# Altium integrated library TI Logic Latch.IntLib: 771 symbols (part 3 of 18)
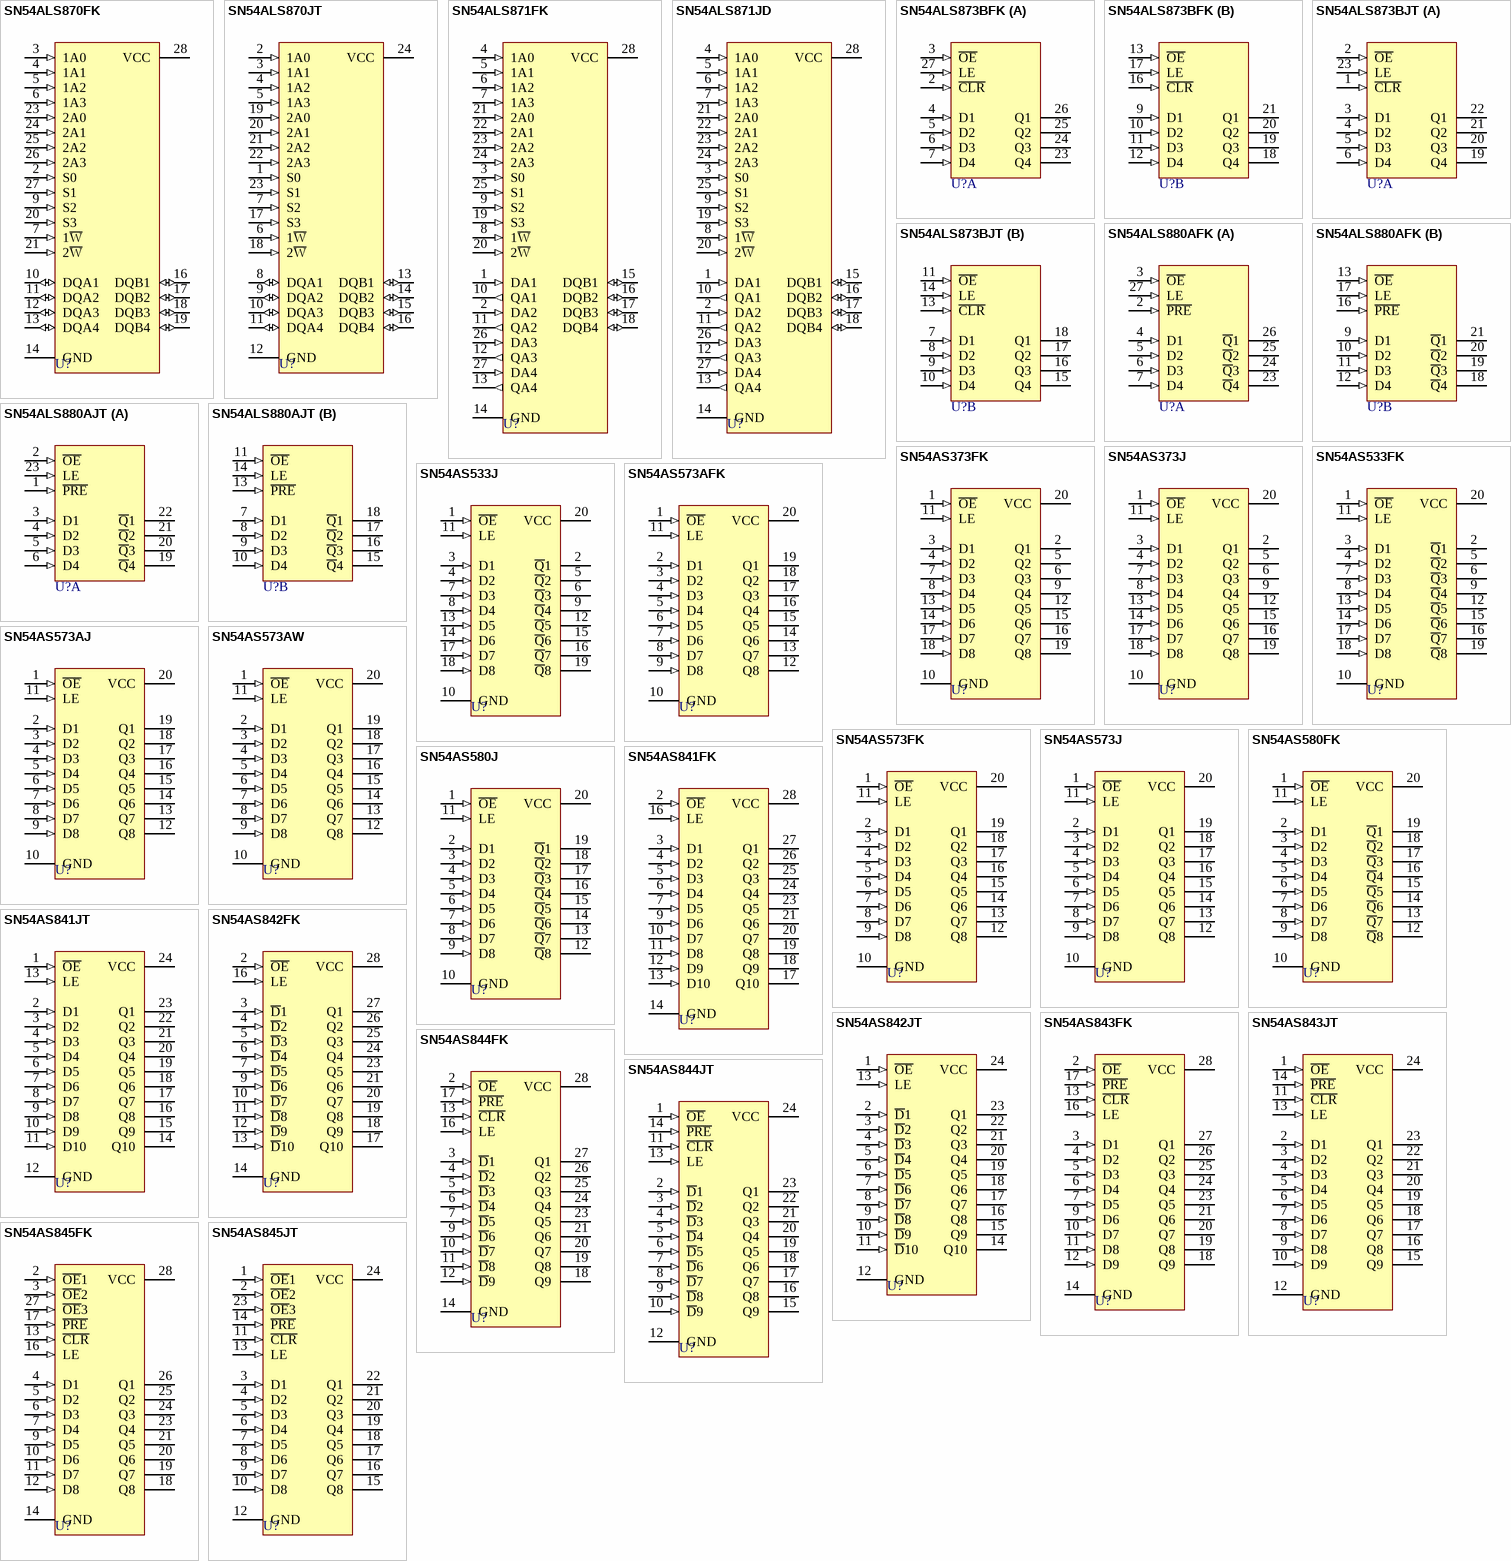
[diagram p28: symbols SN54ALS870FK to SN54AS845JT]

## SN54AS373J
designator U?
Octal Transparent D-Type Latches with 3-State Outputs; Published: 8-Jun-2000; LatestRevisionDate: 04-Mar-2005; LatestRevisionNote: Stylized 3D Model Added.; DatasheetVersion: Dec-1994; PackageVersion: Jun-1999; PackageReference: J020; Publisher: Altium Limited; PackageDescription: DIP; 20 Leads; Row Spacing 7.62 mm; Pitch 2.54 mm; ComponentLink1Description: Manufacturer Link; ComponentLink1URL: http://www.ti.com/; ComponentLink2Description: Datasheet; ComponentLink2URL: http://www-s.ti.com/sc/ds/sn54als373a.pdf
footprint J020 (DIP; 20 Leads; Row Spacing 7.62 mm; Pitch 2.54 mm)
3D model J020 (DIP; 20 Leads; Row Spacing 7.62 mm; Pitch 2.54 mm)
signal-integrity model SN54AS373J
pins: 1 ~{OE} (in), 2 Q1 (hiz), 3 D1 (in), 4 D2 (in), 5 Q2 (hiz), 6 Q3 (hiz), 7 D3 (in), 8 D4 (in), 9 Q4 (hiz), 10 GND (power), 11 LE (in), 12 Q5 (hiz), 13 D5 (in), 14 D6 (in), 15 Q6 (hiz), 16 Q7 (hiz), 17 D7 (in), 18 D8 (in), 19 Q8 (hiz), 20 VCC (power)

## SN54AS533FK
designator U?
Octal D-Type Transparent Latch with 3-State Outputs; Published: 8-Jun-2000; LatestRevisionDate: 17-Jul-2002; LatestRevisionNote: Re-released for DXP Platform.; DatasheetVersion: May-1986; PackageVersion: 1998; PackageReference: FK020D; Publisher: Altium Limited; PackageDescription: Leadless Chip Carrier; 20 Terminals; Body 8.9 x 8.9 mm; ComponentLink1Description: Manufacturer Link; ComponentLink1URL: http://www.ti.com/
footprint FK020D (Leadless Chip Carrier; 20 Terminals; Body 8.9 x 8.9 mm)
signal-integrity model SN54AS533FK
pins: 1 ~{OE} (in), 2 ~{Q}1 (hiz), 3 D1 (in), 4 D2 (in), 5 ~{Q}2 (hiz), 6 ~{Q}3 (hiz), 7 D3 (in), 8 D4 (in), 9 ~{Q}4 (hiz), 10 GND (power), 11 LE (in), 12 ~{Q}5 (hiz), 13 D5 (in), 14 D6 (in), 15 ~{Q}6 (hiz), 16 ~{Q}7 (hiz), 17 D7 (in), 18 D8 (in), 19 ~{Q}8 (hiz), 20 VCC (power)

## SN54AS533J
designator U?
Octal D-Type Transparent Latch with 3-State Outputs; Published: 8-Jun-2000; LatestRevisionDate: 04-Mar-2005; LatestRevisionNote: Stylized 3D Model Added.; DatasheetVersion: May-1986; PackageVersion: Jun-1999; PackageReference: J020D; Publisher: Altium Limited; PackageDescription: DIP; 20 Leads; Row Spacing 7.62 mm; Pitch 2.54 mm; ComponentLink1Description: Manufacturer Link; ComponentLink1URL: http://www.ti.com/
footprint J020D (DIP; 20 Leads; Row Spacing 7.62 mm; Pitch 2.54 mm)
3D model J020 (DIP; 20 Leads; Row Spacing 7.62 mm; Pitch 2.54 mm)
signal-integrity model SN54AS533J
pins: 1 ~{OE} (in), 2 ~{Q}1 (hiz), 3 D1 (in), 4 D2 (in), 5 ~{Q}2 (hiz), 6 ~{Q}3 (hiz), 7 D3 (in), 8 D4 (in), 9 ~{Q}4 (hiz), 10 GND (power), 11 LE (in), 12 ~{Q}5 (hiz), 13 D5 (in), 14 D6 (in), 15 ~{Q}6 (hiz), 16 ~{Q}7 (hiz), 17 D7 (in), 18 D8 (in), 19 ~{Q}8 (hiz), 20 VCC (power)

## SN54AS573AFK
designator U?
Octal D-Type Transparent Latches with 3-State Outputs; Published: 8-Jun-2000; LatestRevisionDate: 17-Jul-2002; LatestRevisionNote: Re-released for DXP Platform.; DatasheetVersion: Jan-1995; PackageVersion: 1998; PackageReference: FK020; Publisher: Altium Limited; PackageDescription: Leadless Chip Carrier; 20 Terminals; Body 8.9 x 8.9 mm; ComponentLink1Description: Manufacturer Link; ComponentLink1URL: http://www.ti.com/; ComponentLink2Description: Datasheet; ComponentLink2URL: http://www-s.ti.com/sc/ds/sn54as573a.pdf
footprint FK020 (Leadless Chip Carrier; 20 Terminals; Body 8.9 x 8.9 mm)
signal-integrity model SN54AS573AFK
pins: 1 ~{OE} (in), 2 D1 (in), 3 D2 (in), 4 D3 (in), 5 D4 (in), 6 D5 (in), 7 D6 (in), 8 D7 (in), 9 D8 (in), 10 GND (power), 11 LE (in), 12 Q8 (hiz), 13 Q7 (hiz), 14 Q6 (hiz), 15 Q5 (hiz), 16 Q4 (hiz), 17 Q3 (hiz), 18 Q2 (hiz), 19 Q1 (hiz), 20 VCC (power)

## SN54AS573AJ
designator U?
Octal D-Type Transparent Latches with 3-State Outputs; Published: 8-Jun-2000; LatestRevisionDate: 04-Mar-2005; LatestRevisionNote: Stylized 3D Model Added.; DatasheetVersion: Jan-1995; PackageVersion: Jun-1999; PackageReference: J020; Publisher: Altium Limited; PackageDescription: DIP; 20 Leads; Row Spacing 7.62 mm; Pitch 2.54 mm; ComponentLink1Description: Manufacturer Link; ComponentLink1URL: http://www.ti.com/; ComponentLink2Description: Datasheet; ComponentLink2URL: http://www-s.ti.com/sc/ds/sn54as573a.pdf
footprint J020 (DIP; 20 Leads; Row Spacing 7.62 mm; Pitch 2.54 mm)
3D model J020 (DIP; 20 Leads; Row Spacing 7.62 mm; Pitch 2.54 mm)
signal-integrity model SN54AS573AJ
pins: 1 ~{OE} (in), 2 D1 (in), 3 D2 (in), 4 D3 (in), 5 D4 (in), 6 D5 (in), 7 D6 (in), 8 D7 (in), 9 D8 (in), 10 GND (power), 11 LE (in), 12 Q8 (hiz), 13 Q7 (hiz), 14 Q6 (hiz), 15 Q5 (hiz), 16 Q4 (hiz), 17 Q3 (hiz), 18 Q2 (hiz), 19 Q1 (hiz), 20 VCC (power)

## SN54AS573AW
designator U?
Octal D-Type Transparent Latches with 3-State Outputs; Published: 8-Jun-2000; LatestRevisionDate: 04-Mar-2005; LatestRevisionNote: Stylized 3D Model Added.; DatasheetVersion: Jan-1995; PackageVersion: Jan-1995; PackageReference: W020; Publisher: Altium Limited; PackageDescription: DFP; 20 Leads; Body 13.7 x 7.6 mm (LxW max); Pitch 1.27 mm; ComponentLink1Description: Manufacturer Link; ComponentLink1URL: http://www.ti.com/; ComponentLink2Description: Datasheet; ComponentLink2URL: http://www-s.ti.com/sc/ds/sn54as573a.pdf
footprint W020 (DFP; 20 Leads; Body 13.7 x 7.6 mm (LxW max); Pitch 1.27 mm)
3D model W020 (DFP; 20 Leads; Body 13.7 x 7.6 mm (LxW max); Pitch 1.27 mm)
signal-integrity model SN54AS573AW
pins: 1 ~{OE} (in), 2 D1 (in), 3 D2 (in), 4 D3 (in), 5 D4 (in), 6 D5 (in), 7 D6 (in), 8 D7 (in), 9 D8 (in), 10 GND (power), 11 LE (in), 12 Q8 (hiz), 13 Q7 (hiz), 14 Q6 (hiz), 15 Q5 (hiz), 16 Q4 (hiz), 17 Q3 (hiz), 18 Q2 (hiz), 19 Q1 (hiz), 20 VCC (power)

## SN54AS573FK
designator U?
Octal D-Type Transparent Latch with 3-State Outputs; Published: 8-Jun-2000; LatestRevisionDate: 17-Jul-2002; LatestRevisionNote: Re-released for DXP Platform.; DatasheetVersion: May-1986; PackageVersion: 1998; PackageReference: FK020D; Publisher: Altium Limited; PackageDescription: Leadless Chip Carrier; 20 Terminals; Body 8.9 x 8.9 mm; ComponentLink1Description: Manufacturer Link; ComponentLink1URL: http://www.ti.com/
footprint FK020D (Leadless Chip Carrier; 20 Terminals; Body 8.9 x 8.9 mm)
signal-integrity model SN54AS573FK
pins: 1 ~{OE} (in), 2 D1 (in), 3 D2 (in), 4 D3 (in), 5 D4 (in), 6 D5 (in), 7 D6 (in), 8 D7 (in), 9 D8 (in), 10 GND (power), 11 LE (in), 12 Q8 (hiz), 13 Q7 (hiz), 14 Q6 (hiz), 15 Q5 (hiz), 16 Q4 (hiz), 17 Q3 (hiz), 18 Q2 (hiz), 19 Q1 (hiz), 20 VCC (power)

## SN54AS573J
designator U?
Octal D-Type Transparent Latch with 3-State Outputs; Published: 8-Jun-2000; LatestRevisionDate: 04-Mar-2005; LatestRevisionNote: Stylized 3D Model Added.; DatasheetVersion: May-1986; PackageVersion: Jun-1999; PackageReference: J020D; Publisher: Altium Limited; PackageDescription: DIP; 20 Leads; Row Spacing 7.62 mm; Pitch 2.54 mm; ComponentLink1Description: Manufacturer Link; ComponentLink1URL: http://www.ti.com/
footprint J020D (DIP; 20 Leads; Row Spacing 7.62 mm; Pitch 2.54 mm)
3D model J020 (DIP; 20 Leads; Row Spacing 7.62 mm; Pitch 2.54 mm)
signal-integrity model SN54AS573J
pins: 1 ~{OE} (in), 2 D1 (in), 3 D2 (in), 4 D3 (in), 5 D4 (in), 6 D5 (in), 7 D6 (in), 8 D7 (in), 9 D8 (in), 10 GND (power), 11 LE (in), 12 Q8 (hiz), 13 Q7 (hiz), 14 Q6 (hiz), 15 Q5 (hiz), 16 Q4 (hiz), 17 Q3 (hiz), 18 Q2 (hiz), 19 Q1 (hiz), 20 VCC (power)

## SN54AS580FK
designator U?
Octal D-Type Transparent Latch with 3-State Outputs; Published: 8-Jun-2000; LatestRevisionDate: 17-Jul-2002; LatestRevisionNote: Re-released for DXP Platform.; DatasheetVersion: May-1986; PackageVersion: 1998; PackageReference: FK020D; Publisher: Altium Limited; PackageDescription: Leadless Chip Carrier; 20 Terminals; Body 8.9 x 8.9 mm; ComponentLink1Description: Manufacturer Link; ComponentLink1URL: http://www.ti.com/
footprint FK020D (Leadless Chip Carrier; 20 Terminals; Body 8.9 x 8.9 mm)
signal-integrity model SN54AS580FK
pins: 1 ~{OE} (in), 2 D1 (in), 3 D2 (in), 4 D3 (in), 5 D4 (in), 6 D5 (in), 7 D6 (in), 8 D7 (in), 9 D8 (in), 10 GND (power), 11 LE (in), 12 ~{Q}8 (hiz), 13 ~{Q}7 (hiz), 14 ~{Q}6 (hiz), 15 ~{Q}5 (hiz), 16 ~{Q}4 (hiz), 17 ~{Q}3 (hiz), 18 ~{Q}2 (hiz), 19 ~{Q}1 (hiz), 20 VCC (power)

## SN54AS580J
designator U?
Octal D-Type Transparent Latch with 3-State Outputs; Published: 8-Jun-2000; LatestRevisionDate: 04-Mar-2005; LatestRevisionNote: Stylized 3D Model Added.; DatasheetVersion: May-1986; PackageVersion: Jun-1999; PackageReference: J020D; Publisher: Altium Limited; PackageDescription: DIP; 20 Leads; Row Spacing 7.62 mm; Pitch 2.54 mm; ComponentLink1Description: Manufacturer Link; ComponentLink1URL: http://www.ti.com/
footprint J020D (DIP; 20 Leads; Row Spacing 7.62 mm; Pitch 2.54 mm)
3D model J020 (DIP; 20 Leads; Row Spacing 7.62 mm; Pitch 2.54 mm)
signal-integrity model SN54AS580J
pins: 1 ~{OE} (in), 2 D1 (in), 3 D2 (in), 4 D3 (in), 5 D4 (in), 6 D5 (in), 7 D6 (in), 8 D7 (in), 9 D8 (in), 10 GND (power), 11 LE (in), 12 ~{Q}8 (hiz), 13 ~{Q}7 (hiz), 14 ~{Q}6 (hiz), 15 ~{Q}5 (hiz), 16 ~{Q}4 (hiz), 17 ~{Q}3 (hiz), 18 ~{Q}2 (hiz), 19 ~{Q}1 (hiz), 20 VCC (power)

## SN54AS841FK
designator U?
10-Bit Bus Interface D-Type Latch with 3-State Outputs; Note: Pins No 1,8,15 and 22 are Not Connected; Published: 8-Jun-2000; LatestRevisionDate: 17-Jul-2002; LatestRevisionNote: Re-released for DXP Platform.; DatasheetVersion: May-1986; PackageVersion: 1998; PackageReference: FK028; Publisher: Altium Limited; PackageDescription: Leadless Chip Carrier; 28 Terminals; Body 11.4 x 11.4 mm; ComponentLink1Description: Manufacturer Link; ComponentLink1URL: http://www.ti.com/
footprint FK028 (Leadless Chip Carrier; 28 Terminals; Body 11.4 x 11.4 mm)
signal-integrity model SN54AS841FK
pins: 2 ~{OE} (in), 3 D1 (in), 4 D2 (in), 5 D3 (in), 6 D4 (in), 7 D5 (in), 9 D6 (in), 10 D7 (in), 11 D8 (in), 12 D9 (in), 13 D10 (in), 14 GND (power), 16 LE (in), 17 Q10 (hiz), 18 Q9 (hiz), 19 Q8 (hiz), 20 Q7 (hiz), 21 Q6 (hiz), 23 Q5 (hiz), 24 Q4 (hiz), 25 Q3 (hiz), 26 Q2 (hiz), 27 Q1 (hiz), 28 VCC (power)

## SN54AS841JT
designator U?
10-Bit Bus Interface D-Type Latch with 3-State Outputs; Published: 8-Jun-2000; LatestRevisionDate: 04-Mar-2005; LatestRevisionNote: Stylized 3D Model Added.; DatasheetVersion: May-1986; PackageVersion: Jan-1997; PackageReference: JT024; Publisher: Altium Limited; PackageDescription: DIP; 24 Leads; Row Spacing 7.62 mm; Pitch 2.54 mm; Code_JEDEC: MS-001-AF; ComponentLink1Description: Manufacturer Link; ComponentLink1URL: http://www.ti.com/
footprint JT024 (DIP; 24 Leads; Row Spacing 7.62 mm; Pitch 2.54 mm)
3D model JT024 (DIP; 24 Leads; Row Spacing 7.62 mm; Pitch 2.54 mm)
signal-integrity model SN54AS841JT
pins: 1 ~{OE} (in), 2 D1 (in), 3 D2 (in), 4 D3 (in), 5 D4 (in), 6 D5 (in), 7 D6 (in), 8 D7 (in), 9 D8 (in), 10 D9 (in), 11 D10 (in), 12 GND (power), 13 LE (in), 14 Q10 (hiz), 15 Q9 (hiz), 16 Q8 (hiz), 17 Q7 (hiz), 18 Q6 (hiz), 19 Q5 (hiz), 20 Q4 (hiz), 21 Q3 (hiz), 22 Q2 (hiz), 23 Q1 (hiz), 24 VCC (power)

## SN54AS842FK
designator U?
10-Bit Bus Interface D-Type Latch with 3-State Outputs; Note: Pins No 1,8,15 and 22 are Not Connected; Published: 8-Jun-2000; LatestRevisionDate: 17-Jul-2002; LatestRevisionNote: Re-released for DXP Platform.; DatasheetVersion: May-1986; PackageVersion: 1998; PackageReference: FK028; Publisher: Altium Limited; PackageDescription: Leadless Chip Carrier; 28 Terminals; Body 11.4 x 11.4 mm; ComponentLink1Description: Manufacturer Link; ComponentLink1URL: http://www.ti.com/
footprint FK028 (Leadless Chip Carrier; 28 Terminals; Body 11.4 x 11.4 mm)
signal-integrity model SN54AS842FK
pins: 2 ~{OE} (in), 3 ~{D}1 (in), 4 ~{D}2 (in), 5 ~{D}3 (in), 6 ~{D}4 (in), 7 ~{D}5 (in), 9 ~{D}6 (in), 10 ~{D}7 (in), 11 ~{D}8 (in), 12 ~{D}9 (in), 13 ~{D}10 (in), 14 GND (power), 16 LE (in), 17 Q10 (hiz), 18 Q9 (hiz), 19 Q8 (hiz), 20 Q7 (hiz), 21 Q6 (hiz), 23 Q5 (hiz), 24 Q4 (hiz), 25 Q3 (hiz), 26 Q2 (hiz), 27 Q1 (hiz), 28 VCC (power)

## SN54AS842JT
designator U?
10-Bit Bus Interface D-Type Latch with 3-State Outputs; Published: 8-Jun-2000; LatestRevisionDate: 04-Mar-2005; LatestRevisionNote: Stylized 3D Model Added.; DatasheetVersion: May-1986; PackageVersion: Jan-1997; PackageReference: JT024; Publisher: Altium Limited; PackageDescription: DIP; 24 Leads; Row Spacing 7.62 mm; Pitch 2.54 mm; Code_JEDEC: MS-001-AF; ComponentLink1Description: Manufacturer Link; ComponentLink1URL: http://www.ti.com/
footprint JT024 (DIP; 24 Leads; Row Spacing 7.62 mm; Pitch 2.54 mm)
3D model JT024 (DIP; 24 Leads; Row Spacing 7.62 mm; Pitch 2.54 mm)
signal-integrity model SN54AS842JT
pins: 1 ~{OE} (in), 2 ~{D}1 (in), 3 ~{D}2 (in), 4 ~{D}3 (in), 5 ~{D}4 (in), 6 ~{D}5 (in), 7 ~{D}6 (in), 8 ~{D}7 (in), 9 ~{D}8 (in), 10 ~{D}9 (in), 11 ~{D}10 (in), 12 GND (power), 13 LE (in), 14 Q10 (hiz), 15 Q9 (hiz), 16 Q8 (hiz), 17 Q7 (hiz), 18 Q6 (hiz), 19 Q5 (hiz), 20 Q4 (hiz), 21 Q3 (hiz), 22 Q2 (hiz), 23 Q1 (hiz), 24 VCC (power)

## SN54AS843FK
designator U?
9-Bit Bus Interface D-Type Latch with 3-State Outputs; Published: 8-Jun-2000; LatestRevisionDate: 17-Jul-2002; LatestRevisionNote: Re-released for DXP Platform.; DatasheetVersion: Dec-1985; PackageVersion: 1998; PackageReference: FK028D; Publisher: Altium Limited; PackageDescription: Leadless Chip Carrier; 28 Terminals; Body 11.4 x 11.4 mm; ComponentLink1Description: Manufacturer Link; ComponentLink1URL: http://www.ti.com/
footprint FK028D (Leadless Chip Carrier; 28 Terminals; Body 11.4 x 11.4 mm)
signal-integrity model SN54AS843FK
pins: 2 ~{OE} (in), 3 D1 (in), 4 D2 (in), 5 D3 (in), 6 D4 (in), 7 D5 (in), 9 D6 (in), 10 D7 (in), 11 D8 (in), 12 D9 (in), 13 ~{CLR} (in), 14 GND (power), 16 LE (in), 17 ~{PRE} (in), 18 Q9 (hiz), 19 Q8 (hiz), 20 Q7 (hiz), 21 Q6 (hiz), 23 Q5 (hiz), 24 Q4 (hiz), 25 Q3 (hiz), 26 Q2 (hiz), 27 Q1 (hiz), 28 VCC (power)

## SN54AS843JT
designator U?
9-Bit Bus Interface D-Type Latch with 3-State Outputs; Published: 8-Jun-2000; LatestRevisionDate: 04-Mar-2005; LatestRevisionNote: Stylized 3D Model Added.; DatasheetVersion: Dec-1985; PackageVersion: Jan-1997; PackageReference: JT024D; Publisher: Altium Limited; PackageDescription: DIP; 24 Leads; Row Spacing 7.62 mm; Pitch 2.54 mm; Code_JEDEC: MS-001-AF; ComponentLink1Description: Manufacturer Link; ComponentLink1URL: http://www.ti.com/
footprint JT024D (DIP; 24 Leads; Row Spacing 7.62 mm; Pitch 2.54 mm)
3D model JT024 (DIP; 24 Leads; Row Spacing 7.62 mm; Pitch 2.54 mm)
signal-integrity model SN54AS843JT
pins: 1 ~{OE} (in), 2 D1 (in), 3 D2 (in), 4 D3 (in), 5 D4 (in), 6 D5 (in), 7 D6 (in), 8 D7 (in), 9 D8 (in), 10 D9 (in), 11 ~{CLR} (in), 12 GND (power), 13 LE (in), 14 ~{PRE} (in), 15 Q9 (hiz), 16 Q8 (hiz), 17 Q7 (hiz), 18 Q6 (hiz), 19 Q5 (hiz), 20 Q4 (hiz), 21 Q3 (hiz), 22 Q2 (hiz), 23 Q1 (hiz), 24 VCC (power)

## SN54AS844FK
designator U?
9-Bit Bus Interface D-Type Latch with 3-State Outputs; Note: Pins No 1,8,15 and 22 are Not Connected; Published: 8-Jun-2000; LatestRevisionDate: 17-Jul-2002; LatestRevisionNote: Re-released for DXP Platform.; DatasheetVersion: Dec-1985; PackageVersion: 1998; PackageReference: FK028D; Publisher: Altium Limited; PackageDescription: Leadless Chip Carrier; 28 Terminals; Body 11.4 x 11.4 mm; ComponentLink1Description: Manufacturer Link; ComponentLink1URL: http://www.ti.com/
footprint FK028D (Leadless Chip Carrier; 28 Terminals; Body 11.4 x 11.4 mm)
signal-integrity model SN54AS844FK
pins: 2 ~{OE} (in), 3 ~{D}1 (in), 4 ~{D}2 (in), 5 ~{D}3 (in), 6 ~{D}4 (in), 7 ~{D}5 (in), 9 ~{D}6 (in), 10 ~{D}7 (in), 11 ~{D}8 (in), 12 ~{D}9 (in), 13 ~{CLR} (in), 14 GND (power), 16 LE (in), 17 ~{PRE} (in), 18 Q9 (hiz), 19 Q8 (hiz), 20 Q7 (hiz), 21 Q6 (hiz), 23 Q5 (hiz), 24 Q4 (hiz), 25 Q3 (hiz), 26 Q2 (hiz), 27 Q1 (hiz), 28 VCC (power)

## SN54AS844JT
designator U?
9-Bit Bus Interface D-Type Latch with 3-State Outputs; Published: 8-Jun-2000; LatestRevisionDate: 04-Mar-2005; LatestRevisionNote: Stylized 3D Model Added.; DatasheetVersion: Dec-1985; PackageVersion: Jan-1997; PackageReference: JT024D; Publisher: Altium Limited; PackageDescription: DIP; 24 Leads; Row Spacing 7.62 mm; Pitch 2.54 mm; Code_JEDEC: MS-001-AF; ComponentLink1Description: Manufacturer Link; ComponentLink1URL: http://www.ti.com/
footprint JT024D (DIP; 24 Leads; Row Spacing 7.62 mm; Pitch 2.54 mm)
3D model JT024 (DIP; 24 Leads; Row Spacing 7.62 mm; Pitch 2.54 mm)
signal-integrity model SN54AS844JT
pins: 1 ~{OE} (in), 2 ~{D}1 (in), 3 ~{D}2 (in), 4 ~{D}3 (in), 5 ~{D}4 (in), 6 ~{D}5 (in), 7 ~{D}6 (in), 8 ~{D}7 (in), 9 ~{D}8 (in), 10 ~{D}9 (in), 11 ~{CLR} (in), 12 GND (power), 13 LE (in), 14 ~{PRE} (in), 15 Q9 (hiz), 16 Q8 (hiz), 17 Q7 (hiz), 18 Q6 (hiz), 19 Q5 (hiz), 20 Q4 (hiz), 21 Q3 (hiz), 22 Q2 (hiz), 23 Q1 (hiz), 24 VCC (power)

## SN54AS845FK
designator U?
8-Bit Bus Interface D-type Latch with 3-State Outputs; Note: Pins No 1,8,15 and 22 are Not Connected; Published: 8-Jun-2000; LatestRevisionDate: 17-Jul-2002; LatestRevisionNote: Re-released for DXP Platform.; DatasheetVersion: Jan-1986; PackageVersion: 1998; PackageReference: FK028D; Publisher: Altium Limited; PackageDescription: Leadless Chip Carrier; 28 Terminals; Body 11.4 x 11.4 mm; ComponentLink1Description: Manufacturer Link; ComponentLink1URL: http://www.ti.com/
footprint FK028D (Leadless Chip Carrier; 28 Terminals; Body 11.4 x 11.4 mm)
signal-integrity model SN54AS845FK
pins: 2 ~{OE}1 (in), 3 ~{OE}2 (in), 4 D1 (in), 5 D2 (in), 6 D3 (in), 7 D4 (in), 9 D5 (in), 10 D6 (in), 11 D7 (in), 12 D8 (in), 13 ~{CLR} (in), 14 GND (power), 16 LE (in), 17 ~{PRE} (in), 18 Q8 (hiz), 19 Q7 (hiz), 20 Q6 (hiz), 21 Q5 (hiz), 23 Q4 (hiz), 24 Q3 (hiz), 25 Q2 (hiz), 26 Q1 (hiz), 27 ~{OE}3 (in), 28 VCC (power)

## SN54AS845JT
designator U?
8-Bit Bus Interface D-type Latch with 3-State Outputs; Published: 8-Jun-2000; LatestRevisionDate: 04-Mar-2005; LatestRevisionNote: Stylized 3D Model Added.; DatasheetVersion: Jan-1986; PackageVersion: Jan-1997; PackageReference: JT024D; Publisher: Altium Limited; PackageDescription: DIP; 24 Leads; Row Spacing 7.62 mm; Pitch 2.54 mm; Code_JEDEC: MS-001-AF; ComponentLink1Description: Manufacturer Link; ComponentLink1URL: http://www.ti.com/
footprint JT024D (DIP; 24 Leads; Row Spacing 7.62 mm; Pitch 2.54 mm)
3D model JT024 (DIP; 24 Leads; Row Spacing 7.62 mm; Pitch 2.54 mm)
signal-integrity model SN54AS845JT
pins: 1 ~{OE}1 (in), 2 ~{OE}2 (in), 3 D1 (in), 4 D2 (in), 5 D3 (in), 6 D4 (in), 7 D5 (in), 8 D6 (in), 9 D7 (in), 10 D8 (in), 11 ~{CLR} (in), 12 GND (power), 13 LE (in), 14 ~{PRE} (in), 15 Q8 (hiz), 16 Q7 (hiz), 17 Q6 (hiz), 18 Q5 (hiz), 19 Q4 (hiz), 20 Q3 (hiz), 21 Q2 (hiz), 22 Q1 (hiz), 23 ~{OE}3 (in), 24 VCC (power)

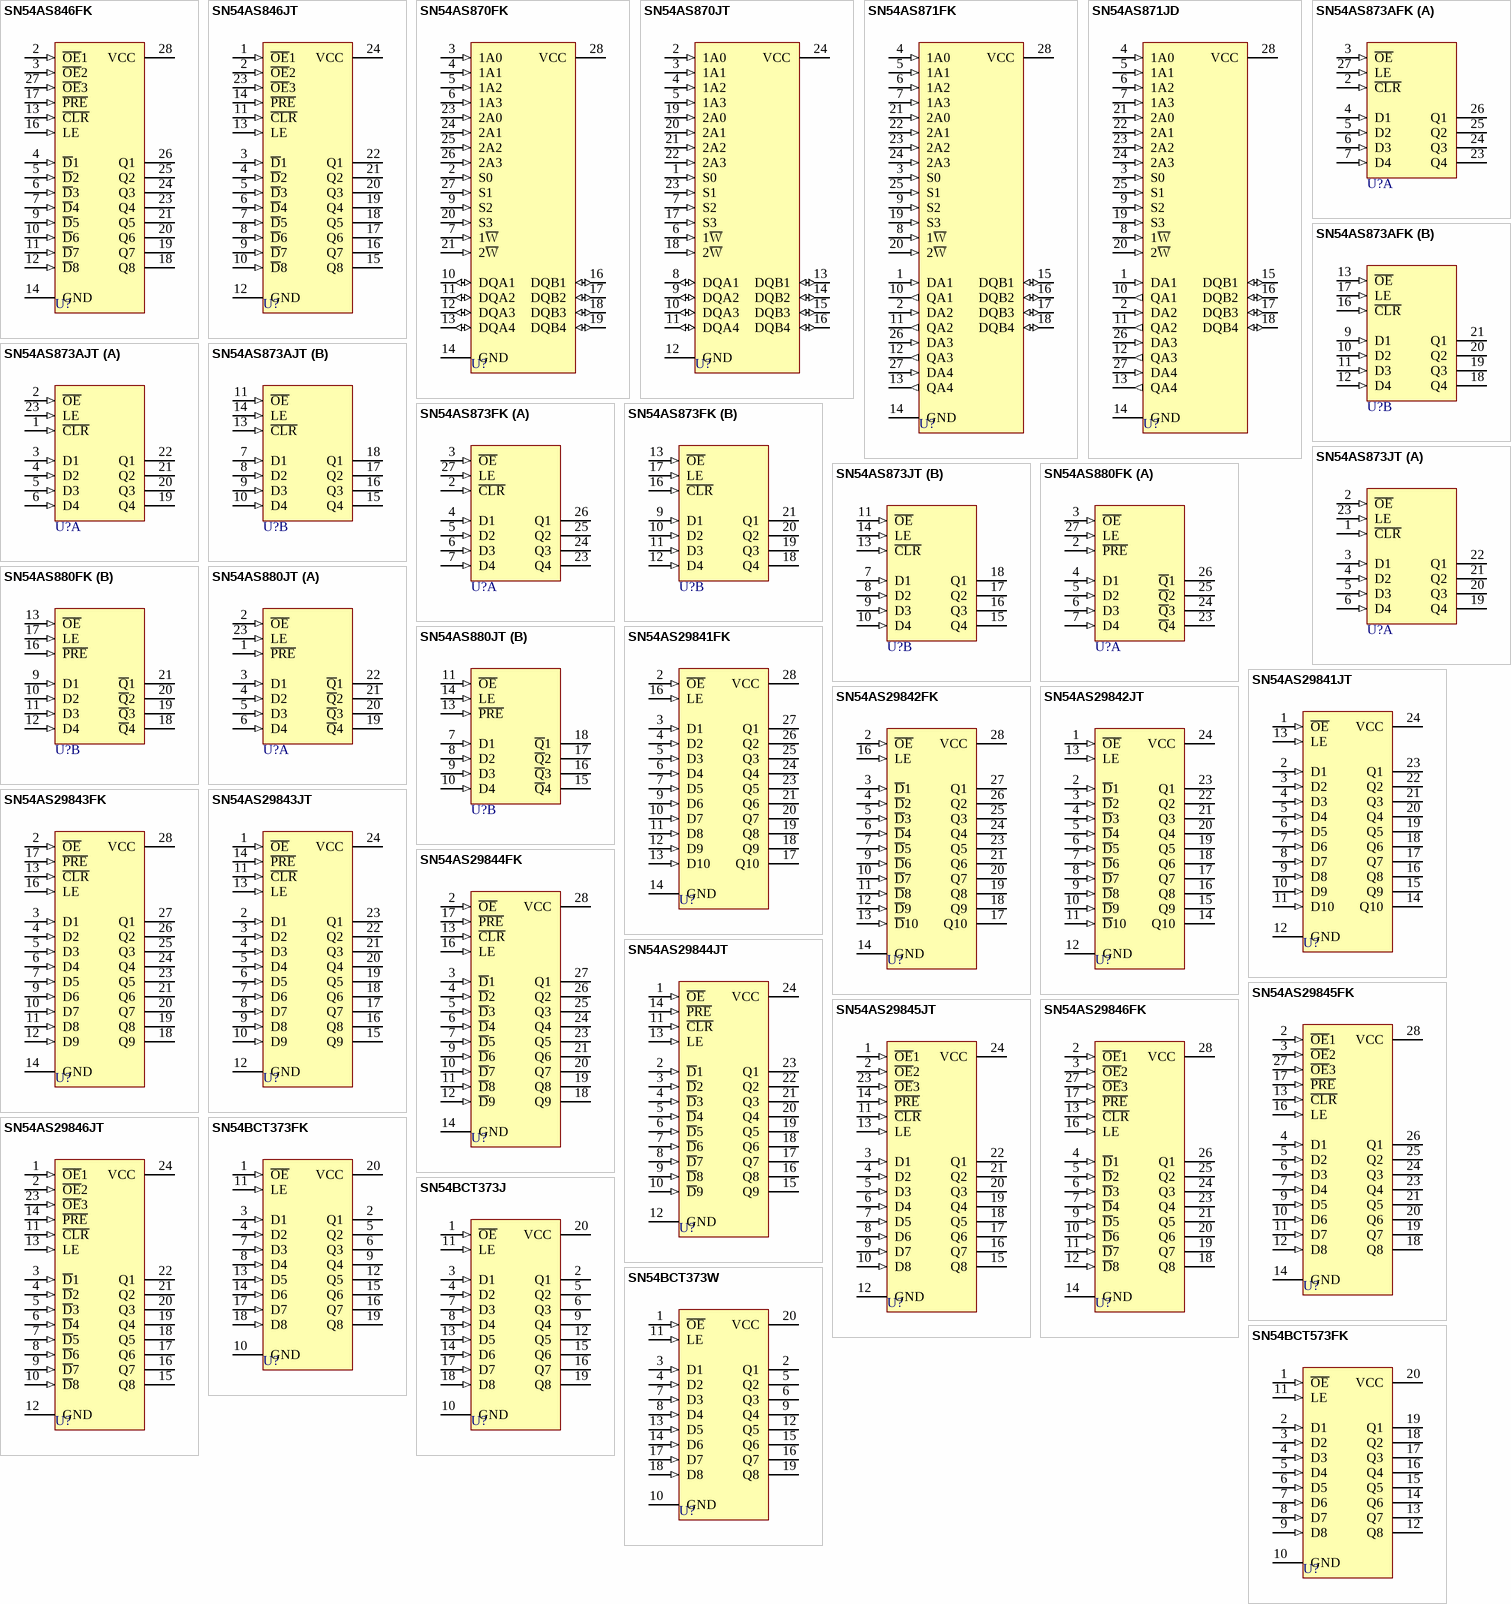
[diagram p4: symbols SN54AS846FK to SN54BCT573FK]

## SN54AS846FK
designator U?
8-Bit Bus Interface D-type Latch with 3-State Outputs; Note: Pins No 1,8,15 and 22 are Not Connected; Published: 8-Jun-2000; LatestRevisionDate: 17-Jul-2002; LatestRevisionNote: Re-released for DXP Platform.; DatasheetVersion: Jan-1986; PackageVersion: 1998; PackageReference: FK028D; Publisher: Altium Limited; PackageDescription: Leadless Chip Carrier; 28 Terminals; Body 11.4 x 11.4 mm; ComponentLink1Description: Manufacturer Link; ComponentLink1URL: http://www.ti.com/
footprint FK028D (Leadless Chip Carrier; 28 Terminals; Body 11.4 x 11.4 mm)
signal-integrity model SN54AS846FK
pins: 2 ~{OE}1 (in), 3 ~{OE}2 (in), 4 ~{D}1 (in), 5 ~{D}2 (in), 6 ~{D}3 (in), 7 ~{D}4 (in), 9 ~{D}5 (in), 10 ~{D}6 (in), 11 ~{D}7 (in), 12 ~{D}8 (in), 13 ~{CLR} (in), 14 GND (power), 16 LE (in), 17 ~{PRE} (in), 18 Q8 (hiz), 19 Q7 (hiz), 20 Q6 (hiz), 21 Q5 (hiz), 23 Q4 (hiz), 24 Q3 (hiz), 25 Q2 (hiz), 26 Q1 (hiz), 27 ~{OE}3 (in), 28 VCC (power)

## SN54AS846JT
designator U?
8-Bit Bus Interface D-type Latch with 3-State Outputs; Published: 8-Jun-2000; LatestRevisionDate: 04-Mar-2005; LatestRevisionNote: Stylized 3D Model Added.; DatasheetVersion: Jan-1986; PackageVersion: Jan-1997; PackageReference: JT024D; Publisher: Altium Limited; PackageDescription: DIP; 24 Leads; Row Spacing 7.62 mm; Pitch 2.54 mm; Code_JEDEC: MS-001-AF; ComponentLink1Description: Manufacturer Link; ComponentLink1URL: http://www.ti.com/
footprint JT024D (DIP; 24 Leads; Row Spacing 7.62 mm; Pitch 2.54 mm)
3D model JT024 (DIP; 24 Leads; Row Spacing 7.62 mm; Pitch 2.54 mm)
signal-integrity model SN54AS846JT
pins: 1 ~{OE}1 (in), 2 ~{OE}2 (in), 3 ~{D}1 (in), 4 ~{D}2 (in), 5 ~{D}3 (in), 6 ~{D}4 (in), 7 ~{D}5 (in), 8 ~{D}6 (in), 9 ~{D}7 (in), 10 ~{D}8 (in), 11 ~{CLR} (in), 12 GND (power), 13 LE (in), 14 ~{PRE} (in), 15 Q8 (hiz), 16 Q7 (hiz), 17 Q6 (hiz), 18 Q5 (hiz), 19 Q4 (hiz), 20 Q3 (hiz), 21 Q2 (hiz), 22 Q1 (hiz), 23 ~{OE}3 (in), 24 VCC (power)

## SN54AS870FK
designator U?
Dual 16-by-4 Register Files; Note: Pins No 1,8,15 and 22 are Not Connected; Published: 8-Jun-2000; LatestRevisionDate: 17-Jul-2002; LatestRevisionNote: Re-released for DXP Platform.; DatasheetVersion: Jan-1986; PackageVersion: 1998; PackageReference: FK028D; Publisher: Altium Limited; PackageDescription: Leadless Chip Carrier; 28 Terminals; Body 11.4 x 11.4 mm; ComponentLink1Description: Manufacturer Link; ComponentLink1URL: http://www.ti.com/
footprint FK028D (Leadless Chip Carrier; 28 Terminals; Body 11.4 x 11.4 mm)
signal-integrity model SN54AS870FK
pins: 2 S0 (in), 3 1A0 (in), 4 1A1 (in), 5 1A2 (in), 6 1A3 (in), 7 1~{W} (in), 9 S2 (in), 10 DQA1 (io), 11 DQA2 (io), 12 DQA3 (io), 13 DQA4 (io), 14 GND (power), 16 DQB1 (io), 17 DQB2 (io), 18 DQB3 (io), 19 DQB4 (io), 20 S3 (in), 21 2~{W} (in), 23 2A0 (in), 24 2A1 (in), 25 2A2 (in), 26 2A3 (in), 27 S1 (in), 28 VCC (power)

## SN54AS870JT
designator U?
Dual 16-by-4 Register Files; Published: 8-Jun-2000; LatestRevisionDate: 04-Mar-2005; LatestRevisionNote: Stylized 3D Model Added.; DatasheetVersion: Jan-1986; PackageVersion: Jan-1997; PackageReference: JT024D; Publisher: Altium Limited; PackageDescription: DIP; 24 Leads; Row Spacing 7.62 mm; Pitch 2.54 mm; Code_JEDEC: MS-001-AF; ComponentLink1Description: Manufacturer Link; ComponentLink1URL: http://www.ti.com/
footprint JT024D (DIP; 24 Leads; Row Spacing 7.62 mm; Pitch 2.54 mm)
3D model JT024 (DIP; 24 Leads; Row Spacing 7.62 mm; Pitch 2.54 mm)
signal-integrity model SN54AS870JT
pins: 1 S0 (in), 2 1A0 (in), 3 1A1 (in), 4 1A2 (in), 5 1A3 (in), 6 1~{W} (in), 7 S2 (in), 8 DQA1 (io), 9 DQA2 (io), 10 DQA3 (io), 11 DQA4 (io), 12 GND (power), 13 DQB1 (io), 14 DQB2 (io), 15 DQB3 (io), 16 DQB4 (io), 17 S3 (in), 18 2~{W} (in), 19 2A0 (in), 20 2A1 (in), 21 2A2 (in), 22 2A3 (in), 23 S1 (in), 24 VCC (power)

## SN54AS871FK
designator U?
Dual 16-by-4 Register Files; Published: 8-Jun-2000; LatestRevisionDate: 17-Jul-2002; LatestRevisionNote: Re-released for DXP Platform.; DatasheetVersion: Jan-1986; PackageVersion: 1998; PackageReference: FK028D; Publisher: Altium Limited; PackageDescription: Leadless Chip Carrier; 28 Terminals; Body 11.4 x 11.4 mm; ComponentLink1Description: Manufacturer Link; ComponentLink1URL: http://www.ti.com/
footprint FK028D (Leadless Chip Carrier; 28 Terminals; Body 11.4 x 11.4 mm)
signal-integrity model SN54AS871FK
pins: 1 DA1 (in), 2 DA2 (in), 3 S0 (in), 4 1A0 (in), 5 1A1 (in), 6 1A2 (in), 7 1A3 (in), 8 1~{W} (in), 9 S2 (in), 10 QA1 (out), 11 QA2 (out), 12 QA3 (out), 13 QA4 (out), 14 GND (power), 15 DQB1 (io), 16 DQB2 (io), 17 DQB3 (io), 18 DQB4 (io), 19 S3 (in), 20 2~{W} (in), 21 2A0 (in), 22 2A1 (in), 23 2A2 (in), 24 2A3 (in), 25 S1 (in), 26 DA3 (in), 27 DA4 (in), 28 VCC (power)

## SN54AS871JD
designator U?
Dual 16-by-4 Register Files; Published: 8-Jun-2000; LatestRevisionDate: 04-Mar-2005; LatestRevisionNote: Stylized 3D Model Added.; DatasheetVersion: Jan-1986; PackageVersion: Jan-1998; PackageReference: JD028D; Publisher: Altium Limited; PackageDescription: DIP; 28 Leads; Row Spacing 15.24 mm; Pitch 2.54 mm; ComponentLink1Description: Manufacturer Link; ComponentLink1URL: http://www.ti.com/
footprint JD028D (DIP; 28 Leads; Row Spacing 15.24 mm; Pitch 2.54 mm)
3D model JD028 (DIP; 28 Leads; Row Spacing 15.24 mm; Pitch 2.54 mm)
signal-integrity model SN54AS871JD
pins: 1 DA1 (in), 2 DA2 (in), 3 S0 (in), 4 1A0 (in), 5 1A1 (in), 6 1A2 (in), 7 1A3 (in), 8 1~{W} (in), 9 S2 (in), 10 QA1 (out), 11 QA2 (out), 12 QA3 (out), 13 QA4 (out), 14 GND (power), 15 DQB1 (io), 16 DQB2 (io), 17 DQB3 (io), 18 DQB4 (io), 19 S3 (in), 20 2~{W} (in), 21 2A0 (in), 22 2A1 (in), 23 2A2 (in), 24 2A3 (in), 25 S1 (in), 26 DA3 (in), 27 DA4 (in), 28 VCC (power)

## SN54AS873AFK
designator U?
Dual 4-Bit D-Type Latch with 3-State Outputs; Note: Pins No 1,8,15 and 22 are Not Connected; Published: 8-Jun-2000; LatestRevisionDate: 17-Jul-2002; LatestRevisionNote: Re-released for DXP Platform.; DatasheetVersion: Aug-1995; PackageVersion: 1998; PackageReference: FK028; Publisher: Altium Limited; PackageDescription: Leadless Chip Carrier; 28 Terminals; Body 11.4 x 11.4 mm; ComponentLink1Description: Manufacturer Link; ComponentLink1URL: http://www.ti.com/; ComponentLink2Description: Datasheet; ComponentLink2URL: http://www-s.ti.com/sc/ds/sn54as873a.pdf
footprint FK028 (Leadless Chip Carrier; 28 Terminals; Body 11.4 x 11.4 mm)
signal-integrity model SN54AS873AFK
pins on every part: 14 GND (power) hidden to GND, 28 VCC (power) hidden to VCC
part A pins: 2 ~{CLR} (in), 3 ~{OE} (in), 4 D1 (in), 5 D2 (in), 6 D3 (in), 7 D4 (in), 23 Q4 (hiz), 24 Q3 (hiz), 25 Q2 (hiz), 26 Q1 (hiz), 27 LE (in)
part B pins: 9 D1 (in), 10 D2 (in), 11 D3 (in), 12 D4 (in), 13 ~{OE} (in), 16 ~{CLR} (in), 17 LE (in), 18 Q4 (hiz), 19 Q3 (hiz), 20 Q2 (hiz), 21 Q1 (hiz)

## SN54AS873AJT
designator U?
Dual 4-Bit D-Type Latch with 3-State Outputs; Published: 8-Jun-2000; LatestRevisionDate: 04-Mar-2005; LatestRevisionNote: Stylized 3D Model Added.; DatasheetVersion: Aug-1995; PackageVersion: Jan-1997; PackageReference: JT024; Publisher: Altium Limited; PackageDescription: DIP; 24 Leads; Row Spacing 7.62 mm; Pitch 2.54 mm; Code_JEDEC: MS-001-AF; ComponentLink1Description: Manufacturer Link; ComponentLink1URL: http://www.ti.com/; ComponentLink2Description: Datasheet; ComponentLink2URL: http://www-s.ti.com/sc/ds/sn54as873a.pdf
footprint JT024 (DIP; 24 Leads; Row Spacing 7.62 mm; Pitch 2.54 mm)
3D model JT024 (DIP; 24 Leads; Row Spacing 7.62 mm; Pitch 2.54 mm)
signal-integrity model SN54AS873AJT
pins on every part: 12 GND (power) hidden to GND, 24 VCC (power) hidden to VCC
part A pins: 1 ~{CLR} (in), 2 ~{OE} (in), 3 D1 (in), 4 D2 (in), 5 D3 (in), 6 D4 (in), 19 Q4 (hiz), 20 Q3 (hiz), 21 Q2 (hiz), 22 Q1 (hiz), 23 LE (in)
part B pins: 7 D1 (in), 8 D2 (in), 9 D3 (in), 10 D4 (in), 11 ~{OE} (in), 13 ~{CLR} (in), 14 LE (in), 15 Q4 (hiz), 16 Q3 (hiz), 17 Q2 (hiz), 18 Q1 (hiz)

## SN54AS873FK
designator U?
Dual 4-Bit D-Type Latches with 3-State Outputs; Note: Pins No 1,8,15 and 22 are Not Connected; Published: 8-Jun-2000; LatestRevisionDate: 17-Jul-2002; LatestRevisionNote: Re-released for DXP Platform.; DatasheetVersion: Sep-1994; PackageVersion: 1998; PackageReference: FK028; Publisher: Altium Limited; PackageDescription: Leadless Chip Carrier; 28 Terminals; Body 11.4 x 11.4 mm; ComponentLink1Description: Manufacturer Link; ComponentLink1URL: http://www.ti.com/; ComponentLink2Description: Datasheet; ComponentLink2URL: http://www-s.ti.com/sc/ds/sn74als873b.pdf
footprint FK028 (Leadless Chip Carrier; 28 Terminals; Body 11.4 x 11.4 mm)
signal-integrity model SN54AS873FK
pins on every part: 14 GND (power) hidden to GND, 28 VCC (power) hidden to VCC
part A pins: 2 ~{CLR} (in), 3 ~{OE} (in), 4 D1 (in), 5 D2 (in), 6 D3 (in), 7 D4 (in), 23 Q4 (hiz), 24 Q3 (hiz), 25 Q2 (hiz), 26 Q1 (hiz), 27 LE (in)
part B pins: 9 D1 (in), 10 D2 (in), 11 D3 (in), 12 D4 (in), 13 ~{OE} (in), 16 ~{CLR} (in), 17 LE (in), 18 Q4 (hiz), 19 Q3 (hiz), 20 Q2 (hiz), 21 Q1 (hiz)

## SN54AS873JT
designator U?
Dual 4-Bit D-Type Latches with 3-State Outputs; Published: 8-Jun-2000; LatestRevisionDate: 04-Mar-2005; LatestRevisionNote: Stylized 3D Model Added.; DatasheetVersion: Sep-1994; PackageVersion: Jan-1997; PackageReference: JT024; Publisher: Altium Limited; PackageDescription: DIP; 24 Leads; Row Spacing 7.62 mm; Pitch 2.54 mm; Code_JEDEC: MS-001-AF; ComponentLink1Description: Manufacturer Link; ComponentLink1URL: http://www.ti.com/; ComponentLink2Description: Datasheet; ComponentLink2URL: http://www-s.ti.com/sc/ds/sn74als873b.pdf
footprint JT024 (DIP; 24 Leads; Row Spacing 7.62 mm; Pitch 2.54 mm)
3D model JT024 (DIP; 24 Leads; Row Spacing 7.62 mm; Pitch 2.54 mm)
signal-integrity model SN54AS873JT
pins on every part: 12 GND (power) hidden to GND, 24 VCC (power) hidden to VCC
part A pins: 1 ~{CLR} (in), 2 ~{OE} (in), 3 D1 (in), 4 D2 (in), 5 D3 (in), 6 D4 (in), 19 Q4 (hiz), 20 Q3 (hiz), 21 Q2 (hiz), 22 Q1 (hiz), 23 LE (in)
part B pins: 7 D1 (in), 8 D2 (in), 9 D3 (in), 10 D4 (in), 11 ~{OE} (in), 13 ~{CLR} (in), 14 LE (in), 15 Q4 (hiz), 16 Q3 (hiz), 17 Q2 (hiz), 18 Q1 (hiz)

## SN54AS880FK
designator U?
Dual 4-Bit D-Type Latch with 3-State Outputs; Note: Pins No 1,8,15 and 22 are Not Connected; Published: 8-Jun-2000; LatestRevisionDate: 17-Jul-2002; LatestRevisionNote: Re-released for DXP Platform.; DatasheetVersion: May-1986; PackageVersion: 1998; PackageReference: FK028D; Publisher: Altium Limited; PackageDescription: Leadless Chip Carrier; 28 Terminals; Body 11.4 x 11.4 mm; ComponentLink1Description: Manufacturer Link; ComponentLink1URL: http://www.ti.com/
footprint FK028D (Leadless Chip Carrier; 28 Terminals; Body 11.4 x 11.4 mm)
signal-integrity model SN54AS880FK
pins on every part: 14 GND (power) hidden to GND, 28 VCC (power) hidden to VCC
part A pins: 2 ~{PRE} (in), 3 ~{OE} (in), 4 D1 (in), 5 D2 (in), 6 D3 (in), 7 D4 (in), 23 ~{Q}4 (hiz), 24 ~{Q}3 (hiz), 25 ~{Q}2 (hiz), 26 ~{Q}1 (hiz), 27 LE (in)
part B pins: 9 D1 (in), 10 D2 (in), 11 D3 (in), 12 D4 (in), 13 ~{OE} (in), 16 ~{PRE} (in), 17 LE (in), 18 ~{Q}4 (hiz), 19 ~{Q}3 (hiz), 20 ~{Q}2 (hiz), 21 ~{Q}1 (hiz)

## SN54AS880JT
designator U?
Dual 4-Bit D-Type Latch with 3-State Outputs; Published: 8-Jun-2000; LatestRevisionDate: 04-Mar-2005; LatestRevisionNote: Stylized 3D Model Added.; DatasheetVersion: May-1986; PackageVersion: Jan-1997; PackageReference: JT024; Publisher: Altium Limited; PackageDescription: DIP; 24 Leads; Row Spacing 7.62 mm; Pitch 2.54 mm; Code_JEDEC: MS-001-AF; ComponentLink1Description: Manufacturer Link; ComponentLink1URL: http://www.ti.com/; ComponentLink2Description: Datasheet; ComponentLink2URL: http://www-s.ti.com/sc/ds/sn74als880a.pdf
footprint JT024 (DIP; 24 Leads; Row Spacing 7.62 mm; Pitch 2.54 mm)
3D model JT024 (DIP; 24 Leads; Row Spacing 7.62 mm; Pitch 2.54 mm)
signal-integrity model SN54AS880JT
pins on every part: 12 GND (power) hidden to GND, 24 VCC (power) hidden to VCC
part A pins: 1 ~{PRE} (in), 2 ~{OE} (in), 3 D1 (in), 4 D2 (in), 5 D3 (in), 6 D4 (in), 19 ~{Q}4 (hiz), 20 ~{Q}3 (hiz), 21 ~{Q}2 (hiz), 22 ~{Q}1 (hiz), 23 LE (in)
part B pins: 7 D1 (in), 8 D2 (in), 9 D3 (in), 10 D4 (in), 11 ~{OE} (in), 13 ~{PRE} (in), 14 LE (in), 15 ~{Q}4 (hiz), 16 ~{Q}3 (hiz), 17 ~{Q}2 (hiz), 18 ~{Q}1 (hiz)

## SN54AS29841FK
designator U?
10-Bit Bus Interface D-Type Latch with 3-State Outputs; Note: Pins No 1,8,15 and 22 are Not Connected; Published: 8-Jun-2000; LatestRevisionDate: 17-Jul-2002; LatestRevisionNote: Re-released for DXP Platform.; DatasheetVersion: May-1986; PackageVersion: 1998; PackageReference: FK028D; Publisher: Altium Limited; PackageDescription: Leadless Chip Carrier; 28 Terminals; Body 11.4 x 11.4 mm; ComponentLink1Description: Manufacturer Link; ComponentLink1URL: http://www.ti.com/
footprint FK028D (Leadless Chip Carrier; 28 Terminals; Body 11.4 x 11.4 mm)
signal-integrity model SN54AS29841FK
pins: 2 ~{OE} (in), 3 D1 (in), 4 D2 (in), 5 D3 (in), 6 D4 (in), 7 D5 (in), 9 D6 (in), 10 D7 (in), 11 D8 (in), 12 D9 (in), 13 D10 (in), 14 GND (power), 16 LE (in), 17 Q10 (hiz), 18 Q9 (hiz), 19 Q8 (hiz), 20 Q7 (hiz), 21 Q6 (hiz), 23 Q5 (hiz), 24 Q4 (hiz), 25 Q3 (hiz), 26 Q2 (hiz), 27 Q1 (hiz), 28 VCC (power)

## SN54AS29841JT
designator U?
10-Bit Bus Interface D-Type Latch with 3-State Outputs; Published: 8-Jun-2000; LatestRevisionDate: 04-Mar-2005; LatestRevisionNote: Stylized 3D Model Added.; DatasheetVersion: May-1986; PackageVersion: Jan-1997; PackageReference: JT024D; Publisher: Altium Limited; PackageDescription: DIP; 24 Leads; Row Spacing 7.62 mm; Pitch 2.54 mm; Code_JEDEC: MS-001-AF; ComponentLink1Description: Manufacturer Link; ComponentLink1URL: http://www.ti.com/
footprint JT024D (DIP; 24 Leads; Row Spacing 7.62 mm; Pitch 2.54 mm)
3D model JT024 (DIP; 24 Leads; Row Spacing 7.62 mm; Pitch 2.54 mm)
signal-integrity model SN54AS29841JT
pins: 1 ~{OE} (in), 2 D1 (in), 3 D2 (in), 4 D3 (in), 5 D4 (in), 6 D5 (in), 7 D6 (in), 8 D7 (in), 9 D8 (in), 10 D9 (in), 11 D10 (in), 12 GND (power), 13 LE (in), 14 Q10 (hiz), 15 Q9 (hiz), 16 Q8 (hiz), 17 Q7 (hiz), 18 Q6 (hiz), 19 Q5 (hiz), 20 Q4 (hiz), 21 Q3 (hiz), 22 Q2 (hiz), 23 Q1 (hiz), 24 VCC (power)

## SN54AS29842FK
designator U?
10-Bit Bus Interface D-Type Latch with 3-State Outputs; Note: Pins No 1,8,15 and 22 are Not Connected; Published: 8-Jun-2000; LatestRevisionDate: 17-Jul-2002; LatestRevisionNote: Re-released for DXP Platform.; DatasheetVersion: May-1986; PackageVersion: 1998; PackageReference: FK028D; Publisher: Altium Limited; PackageDescription: Leadless Chip Carrier; 28 Terminals; Body 11.4 x 11.4 mm; ComponentLink1Description: Manufacturer Link; ComponentLink1URL: http://www.ti.com/
footprint FK028D (Leadless Chip Carrier; 28 Terminals; Body 11.4 x 11.4 mm)
signal-integrity model SN54AS29842FK
pins: 2 ~{OE} (in), 3 ~{D}1 (in), 4 ~{D}2 (in), 5 ~{D}3 (in), 6 ~{D}4 (in), 7 ~{D}5 (in), 9 ~{D}6 (in), 10 ~{D}7 (in), 11 ~{D}8 (in), 12 ~{D}9 (in), 13 ~{D}10 (in), 14 GND (power), 16 LE (in), 17 Q10 (hiz), 18 Q9 (hiz), 19 Q8 (hiz), 20 Q7 (hiz), 21 Q6 (hiz), 23 Q5 (hiz), 24 Q4 (hiz), 25 Q3 (hiz), 26 Q2 (hiz), 27 Q1 (hiz), 28 VCC (power)

## SN54AS29842JT
designator U?
10-Bit Bus Interface D-Type Latch with 3-State Outputs; Published: 8-Jun-2000; LatestRevisionDate: 04-Mar-2005; LatestRevisionNote: Stylized 3D Model Added.; DatasheetVersion: May-1986; PackageVersion: Jan-1997; PackageReference: JT024D; Publisher: Altium Limited; PackageDescription: DIP; 24 Leads; Row Spacing 7.62 mm; Pitch 2.54 mm; Code_JEDEC: MS-001-AF; ComponentLink1Description: Manufacturer Link; ComponentLink1URL: http://www.ti.com/
footprint JT024D (DIP; 24 Leads; Row Spacing 7.62 mm; Pitch 2.54 mm)
3D model JT024 (DIP; 24 Leads; Row Spacing 7.62 mm; Pitch 2.54 mm)
signal-integrity model SN54AS29842JT
pins: 1 ~{OE} (in), 2 ~{D}1 (in), 3 ~{D}2 (in), 4 ~{D}3 (in), 5 ~{D}4 (in), 6 ~{D}5 (in), 7 ~{D}6 (in), 8 ~{D}7 (in), 9 ~{D}8 (in), 10 ~{D}9 (in), 11 ~{D}10 (in), 12 GND (power), 13 LE (in), 14 Q10 (hiz), 15 Q9 (hiz), 16 Q8 (hiz), 17 Q7 (hiz), 18 Q6 (hiz), 19 Q5 (hiz), 20 Q4 (hiz), 21 Q3 (hiz), 22 Q2 (hiz), 23 Q1 (hiz), 24 VCC (power)

## SN54AS29843FK
designator U?
9-Bit Bus Interface D-Type Latch with 3-State Outputs; Note: Pins No 1,8,15 and 22 are Not Connected; Published: 8-Jun-2000; LatestRevisionDate: 17-Jul-2002; LatestRevisionNote: Re-released for DXP Platform.; DatasheetVersion: May-1986; PackageVersion: 1998; PackageReference: FK028D; Publisher: Altium Limited; PackageDescription: Leadless Chip Carrier; 28 Terminals; Body 11.4 x 11.4 mm; ComponentLink1Description: Manufacturer Link; ComponentLink1URL: http://www.ti.com/
footprint FK028D (Leadless Chip Carrier; 28 Terminals; Body 11.4 x 11.4 mm)
signal-integrity model SN54AS29843FK
pins: 2 ~{OE} (in), 3 D1 (in), 4 D2 (in), 5 D3 (in), 6 D4 (in), 7 D5 (in), 9 D6 (in), 10 D7 (in), 11 D8 (in), 12 D9 (in), 13 ~{CLR} (in), 14 GND (power), 16 LE (in), 17 ~{PRE} (in), 18 Q9 (hiz), 19 Q8 (hiz), 20 Q7 (hiz), 21 Q6 (hiz), 23 Q5 (hiz), 24 Q4 (hiz), 25 Q3 (hiz), 26 Q2 (hiz), 27 Q1 (hiz), 28 VCC (power)

## SN54AS29843JT
designator U?
9-Bit Bus Interface D-Type Latch with 3-State Outputs; Published: 8-Jun-2000; LatestRevisionDate: 04-Mar-2005; LatestRevisionNote: Stylized 3D Model Added.; DatasheetVersion: May-1986; PackageVersion: Jan-1997; PackageReference: JT024D; Publisher: Altium Limited; PackageDescription: DIP; 24 Leads; Row Spacing 7.62 mm; Pitch 2.54 mm; Code_JEDEC: MS-001-AF; ComponentLink1Description: Manufacturer Link; ComponentLink1URL: http://www.ti.com/
footprint JT024D (DIP; 24 Leads; Row Spacing 7.62 mm; Pitch 2.54 mm)
3D model JT024 (DIP; 24 Leads; Row Spacing 7.62 mm; Pitch 2.54 mm)
signal-integrity model SN54AS29843JT
pins: 1 ~{OE} (in), 2 D1 (in), 3 D2 (in), 4 D3 (in), 5 D4 (in), 6 D5 (in), 7 D6 (in), 8 D7 (in), 9 D8 (in), 10 D9 (in), 11 ~{CLR} (in), 12 GND (power), 13 LE (in), 14 ~{PRE} (in), 15 Q9 (hiz), 16 Q8 (hiz), 17 Q7 (hiz), 18 Q6 (hiz), 19 Q5 (hiz), 20 Q4 (hiz), 21 Q3 (hiz), 22 Q2 (hiz), 23 Q1 (hiz), 24 VCC (power)

## SN54AS29844FK
designator U?
9-Bit Bus Interface D-Type Latch with 3-State Outputs; Note: Pins No 1,8,15 and 22 are Not Connected; Published: 8-Jun-2000; LatestRevisionDate: 17-Jul-2002; LatestRevisionNote: Re-released for DXP Platform.; DatasheetVersion: May-1986; PackageVersion: 1998; PackageReference: FK028D; Publisher: Altium Limited; PackageDescription: Leadless Chip Carrier; 28 Terminals; Body 11.4 x 11.4 mm; ComponentLink1Description: Manufacturer Link; ComponentLink1URL: http://www.ti.com/
footprint FK028D (Leadless Chip Carrier; 28 Terminals; Body 11.4 x 11.4 mm)
signal-integrity model SN54AS29844FK
pins: 2 ~{OE} (in), 3 ~{D}1 (in), 4 ~{D}2 (in), 5 ~{D}3 (in), 6 ~{D}4 (in), 7 ~{D}5 (in), 9 ~{D}6 (in), 10 ~{D}7 (in), 11 ~{D}8 (in), 12 ~{D}9 (in), 13 ~{CLR} (in), 14 GND (power), 16 LE (in), 17 ~{PRE} (in), 18 Q9 (hiz), 19 Q8 (hiz), 20 Q7 (hiz), 21 Q6 (hiz), 23 Q5 (hiz), 24 Q4 (hiz), 25 Q3 (hiz), 26 Q2 (hiz), 27 Q1 (hiz), 28 VCC (power)

## SN54AS29844JT
designator U?
9-Bit Bus Interface D-Type Latch with 3-State Outputs; Published: 8-Jun-2000; LatestRevisionDate: 04-Mar-2005; LatestRevisionNote: Stylized 3D Model Added.; DatasheetVersion: May-1986; PackageVersion: Jan-1997; PackageReference: JT024D; Publisher: Altium Limited; PackageDescription: DIP; 24 Leads; Row Spacing 7.62 mm; Pitch 2.54 mm; Code_JEDEC: MS-001-AF; ComponentLink1Description: Manufacturer Link; ComponentLink1URL: http://www.ti.com/
footprint JT024D (DIP; 24 Leads; Row Spacing 7.62 mm; Pitch 2.54 mm)
3D model JT024 (DIP; 24 Leads; Row Spacing 7.62 mm; Pitch 2.54 mm)
signal-integrity model SN54AS29844JT
pins: 1 ~{OE} (in), 2 ~{D}1 (in), 3 ~{D}2 (in), 4 ~{D}3 (in), 5 ~{D}4 (in), 6 ~{D}5 (in), 7 ~{D}6 (in), 8 ~{D}7 (in), 9 ~{D}8 (in), 10 ~{D}9 (in), 11 ~{CLR} (in), 12 GND (power), 13 LE (in), 14 ~{PRE} (in), 15 Q9 (hiz), 16 Q8 (hiz), 17 Q7 (hiz), 18 Q6 (hiz), 19 Q5 (hiz), 20 Q4 (hiz), 21 Q3 (hiz), 22 Q2 (hiz), 23 Q1 (hiz), 24 VCC (power)

## SN54AS29845FK
designator U?
8-Bit Bus Interface D-Type Latch with 3-State Outputs; Note: Pins No 1,8,15 and 22 are Not Connected; Published: 8-Jun-2000; LatestRevisionDate: 17-Jul-2002; LatestRevisionNote: Re-released for DXP Platform.; DatasheetVersion: May-1986; PackageVersion: 1998; PackageReference: FK028D; Publisher: Altium Limited; PackageDescription: Leadless Chip Carrier; 28 Terminals; Body 11.4 x 11.4 mm; ComponentLink1Description: Manufacturer Link; ComponentLink1URL: http://www.ti.com/
footprint FK028D (Leadless Chip Carrier; 28 Terminals; Body 11.4 x 11.4 mm)
signal-integrity model SN54AS29845FK
pins: 2 ~{OE}1 (in), 3 ~{OE}2 (in), 4 D1 (in), 5 D2 (in), 6 D3 (in), 7 D4 (in), 9 D5 (in), 10 D6 (in), 11 D7 (in), 12 D8 (in), 13 ~{CLR} (in), 14 GND (power), 16 LE (in), 17 ~{PRE} (in), 18 Q8 (hiz), 19 Q7 (hiz), 20 Q6 (hiz), 21 Q5 (hiz), 23 Q4 (hiz), 24 Q3 (hiz), 25 Q2 (hiz), 26 Q1 (hiz), 27 ~{OE}3 (in), 28 VCC (power)

## SN54AS29845JT
designator U?
8-Bit Bus Interface D-Type Latch with 3-State Outputs; Published: 8-Jun-2000; LatestRevisionDate: 04-Mar-2005; LatestRevisionNote: Stylized 3D Model Added.; DatasheetVersion: May-1986; PackageVersion: Jan-1997; PackageReference: JT024D; Publisher: Altium Limited; PackageDescription: DIP; 24 Leads; Row Spacing 7.62 mm; Pitch 2.54 mm; Code_JEDEC: MS-001-AF; ComponentLink1Description: Manufacturer Link; ComponentLink1URL: http://www.ti.com/
footprint JT024D (DIP; 24 Leads; Row Spacing 7.62 mm; Pitch 2.54 mm)
3D model JT024 (DIP; 24 Leads; Row Spacing 7.62 mm; Pitch 2.54 mm)
signal-integrity model SN54AS29845JT
pins: 1 ~{OE}1 (in), 2 ~{OE}2 (in), 3 D1 (in), 4 D2 (in), 5 D3 (in), 6 D4 (in), 7 D5 (in), 8 D6 (in), 9 D7 (in), 10 D8 (in), 11 ~{CLR} (in), 12 GND (power), 13 LE (in), 14 ~{PRE} (in), 15 Q8 (hiz), 16 Q7 (hiz), 17 Q6 (hiz), 18 Q5 (hiz), 19 Q4 (hiz), 20 Q3 (hiz), 21 Q2 (hiz), 22 Q1 (hiz), 23 ~{OE}3 (in), 24 VCC (power)

## SN54AS29846FK
designator U?
8-Bit Bus Interface D-Type Latch with 3-State Outputs; Note: Pins No 1,8,15 and 22 are Not Connected; Published: 8-Jun-2000; LatestRevisionDate: 17-Jul-2002; LatestRevisionNote: Re-released for DXP Platform.; DatasheetVersion: May-1986; PackageVersion: 1998; PackageReference: FK028D; Publisher: Altium Limited; PackageDescription: Leadless Chip Carrier; 28 Terminals; Body 11.4 x 11.4 mm; ComponentLink1Description: Manufacturer Link; ComponentLink1URL: http://www.ti.com/
footprint FK028D (Leadless Chip Carrier; 28 Terminals; Body 11.4 x 11.4 mm)
signal-integrity model SN54AS29846FK
pins: 2 ~{OE}1 (in), 3 ~{OE}2 (in), 4 ~{D}1 (in), 5 ~{D}2 (in), 6 ~{D}3 (in), 7 ~{D}4 (in), 9 ~{D}5 (in), 10 ~{D}6 (in), 11 ~{D}7 (in), 12 ~{D}8 (in), 13 ~{CLR} (in), 14 GND (power), 16 LE (in), 17 ~{PRE} (in), 18 Q8 (hiz), 19 Q7 (hiz), 20 Q6 (hiz), 21 Q5 (hiz), 23 Q4 (hiz), 24 Q3 (hiz), 25 Q2 (hiz), 26 Q1 (hiz), 27 ~{OE}3 (in), 28 VCC (power)

## SN54AS29846JT
designator U?
8-Bit Bus Interface D-Type Latch with 3-State Outputs; Published: 8-Jun-2000; LatestRevisionDate: 04-Mar-2005; LatestRevisionNote: Stylized 3D Model Added.; DatasheetVersion: May-1986; PackageVersion: Jan-1997; PackageReference: JT024D; Publisher: Altium Limited; PackageDescription: DIP; 24 Leads; Row Spacing 7.62 mm; Pitch 2.54 mm; Code_JEDEC: MS-001-AF; ComponentLink1Description: Manufacturer Link; ComponentLink1URL: http://www.ti.com/
footprint JT024D (DIP; 24 Leads; Row Spacing 7.62 mm; Pitch 2.54 mm)
3D model JT024 (DIP; 24 Leads; Row Spacing 7.62 mm; Pitch 2.54 mm)
signal-integrity model SN54AS29846JT
pins: 1 ~{OE}1 (in), 2 ~{OE}2 (in), 3 ~{D}1 (in), 4 ~{D}2 (in), 5 ~{D}3 (in), 6 ~{D}4 (in), 7 ~{D}5 (in), 8 ~{D}6 (in), 9 ~{D}7 (in), 10 ~{D}8 (in), 11 ~{CLR} (in), 12 GND (power), 13 LE (in), 14 ~{PRE} (in), 15 Q8 (hiz), 16 Q7 (hiz), 17 Q6 (hiz), 18 Q5 (hiz), 19 Q4 (hiz), 20 Q3 (hiz), 21 Q2 (hiz), 22 Q1 (hiz), 23 ~{OE}3 (in), 24 VCC (power)

## SN54BCT373FK
designator U?
Octal Transparent D-Type Latch with 3-State Outputs; Published: 8-Jun-2000; LatestRevisionDate: 17-Jul-2002; LatestRevisionNote: Re-released for DXP Platform.; DatasheetVersion: Nov-1993; PackageVersion: 1998; PackageReference: FK020; Publisher: Altium Limited; PackageDescription: Leadless Chip Carrier; 20 Terminals; Body 8.9 x 8.9 mm; ComponentLink1Description: Manufacturer Link; ComponentLink1URL: http://www.ti.com/; ComponentLink2Description: Datasheet; ComponentLink2URL: http://www-s.ti.com/sc/ds/sn74bct373.pdf
footprint FK020 (Leadless Chip Carrier; 20 Terminals; Body 8.9 x 8.9 mm)
signal-integrity model SN54BCT373FK
pins: 1 ~{OE} (in), 2 Q1 (hiz), 3 D1 (in), 4 D2 (in), 5 Q2 (hiz), 6 Q3 (hiz), 7 D3 (in), 8 D4 (in), 9 Q4 (hiz), 10 GND (power), 11 LE (in), 12 Q5 (hiz), 13 D5 (in), 14 D6 (in), 15 Q6 (hiz), 16 Q7 (hiz), 17 D7 (in), 18 D8 (in), 19 Q8 (hiz), 20 VCC (power)

## SN54BCT373J
designator U?
Octal Transparent D-Type Latch with 3-State Outputs; Published: 8-Jun-2000; LatestRevisionDate: 04-Mar-2005; LatestRevisionNote: Stylized 3D Model Added.; DatasheetVersion: Nov-1993; PackageVersion: Jun-1999; PackageReference: J020; Publisher: Altium Limited; PackageDescription: DIP; 20 Leads; Row Spacing 7.62 mm; Pitch 2.54 mm; ComponentLink1Description: Manufacturer Link; ComponentLink1URL: http://www.ti.com/; ComponentLink2Description: Datasheet; ComponentLink2URL: http://www-s.ti.com/sc/ds/sn74bct373.pdf
footprint J020 (DIP; 20 Leads; Row Spacing 7.62 mm; Pitch 2.54 mm)
3D model J020 (DIP; 20 Leads; Row Spacing 7.62 mm; Pitch 2.54 mm)
signal-integrity model SN54BCT373J
pins: 1 ~{OE} (in), 2 Q1 (hiz), 3 D1 (in), 4 D2 (in), 5 Q2 (hiz), 6 Q3 (hiz), 7 D3 (in), 8 D4 (in), 9 Q4 (hiz), 10 GND (power), 11 LE (in), 12 Q5 (hiz), 13 D5 (in), 14 D6 (in), 15 Q6 (hiz), 16 Q7 (hiz), 17 D7 (in), 18 D8 (in), 19 Q8 (hiz), 20 VCC (power)

## SN54BCT373W
designator U?
Octal Transparent D-Type Latch with 3-State Outputs; Published: 8-Jun-2000; LatestRevisionDate: 04-Mar-2005; LatestRevisionNote: Stylized 3D Model Added.; DatasheetVersion: Nov-1993; PackageVersion: Jan-1995; PackageReference: W020; Publisher: Altium Limited; PackageDescription: DFP; 20 Leads; Body 13.7 x 7.6 mm (LxW max); Pitch 1.27 mm; ComponentLink1Description: Manufacturer Link; ComponentLink1URL: http://www.ti.com/; ComponentLink2Description: Datasheet; ComponentLink2URL: http://www-s.ti.com/sc/ds/sn74bct373.pdf
footprint W020 (DFP; 20 Leads; Body 13.7 x 7.6 mm (LxW max); Pitch 1.27 mm)
3D model W020 (DFP; 20 Leads; Body 13.7 x 7.6 mm (LxW max); Pitch 1.27 mm)
signal-integrity model SN54BCT373W
pins: 1 ~{OE} (in), 2 Q1 (hiz), 3 D1 (in), 4 D2 (in), 5 Q2 (hiz), 6 Q3 (hiz), 7 D3 (in), 8 D4 (in), 9 Q4 (hiz), 10 GND (power), 11 LE (in), 12 Q5 (hiz), 13 D5 (in), 14 D6 (in), 15 Q6 (hiz), 16 Q7 (hiz), 17 D7 (in), 18 D8 (in), 19 Q8 (hiz), 20 VCC (power)

## SN54BCT573FK
designator U?
Octal Transparent D-Type Latch with 3-State Outputs; Published: 8-Jun-2000; LatestRevisionDate: 17-Jul-2002; LatestRevisionNote: Re-released for DXP Platform.; DatasheetVersion: Nov-1993; PackageVersion: 1998; PackageReference: FK020; Publisher: Altium Limited; PackageDescription: Leadless Chip Carrier; 20 Terminals; Body 8.9 x 8.9 mm; ComponentLink1Description: Manufacturer Link; ComponentLink1URL: http://www.ti.com/; ComponentLink2Description: Datasheet; ComponentLink2URL: http://www-s.ti.com/sc/ds/sn74bct573.pdf
footprint FK020 (Leadless Chip Carrier; 20 Terminals; Body 8.9 x 8.9 mm)
signal-integrity model SN54BCT573FK
pins: 1 ~{OE} (in), 2 D1 (in), 3 D2 (in), 4 D3 (in), 5 D4 (in), 6 D5 (in), 7 D6 (in), 8 D7 (in), 9 D8 (in), 10 GND (power), 11 LE (in), 12 Q8 (hiz), 13 Q7 (hiz), 14 Q6 (hiz), 15 Q5 (hiz), 16 Q4 (hiz), 17 Q3 (hiz), 18 Q2 (hiz), 19 Q1 (hiz), 20 VCC (power)

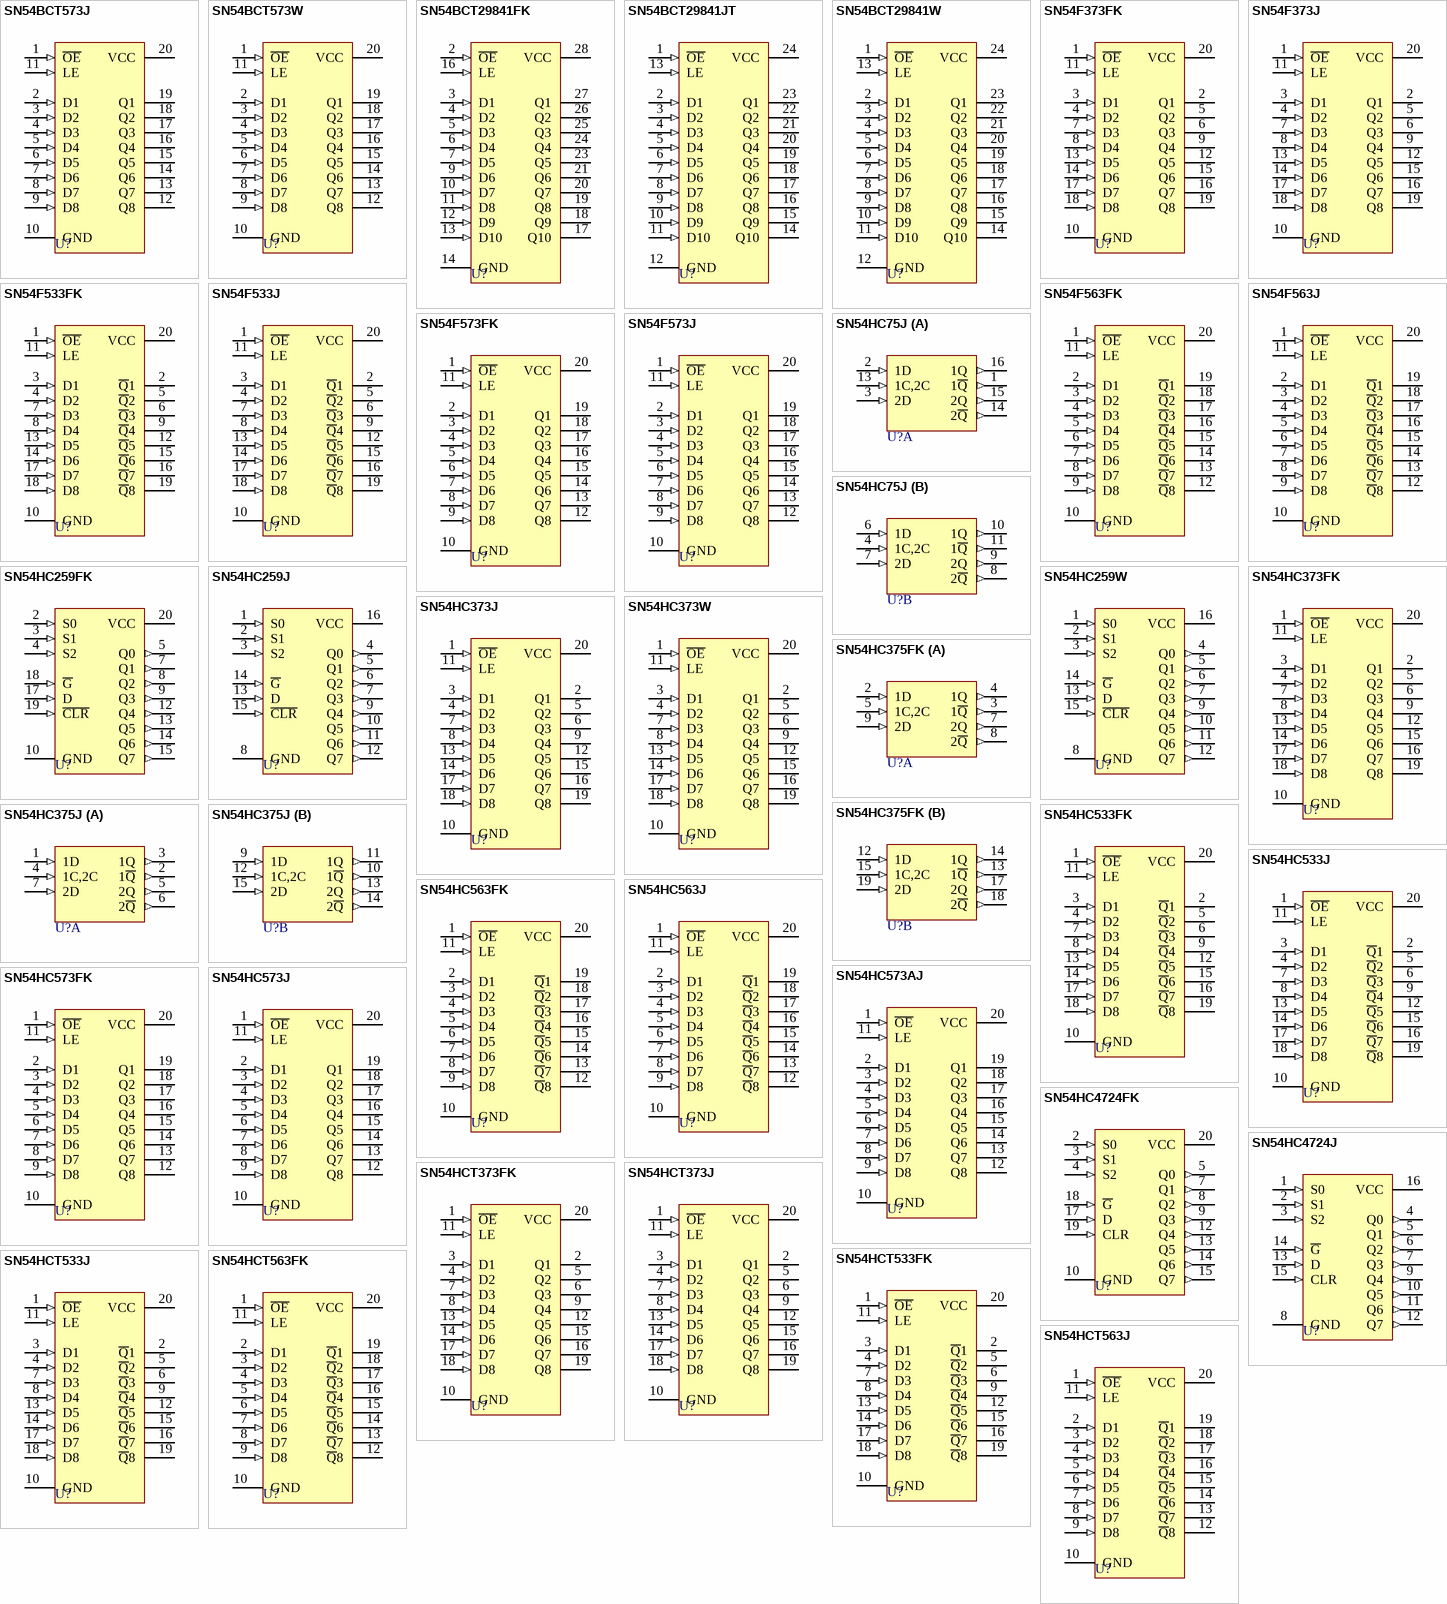
[diagram p5: symbols SN54BCT573J to SN54HCT563J]

## SN54BCT573J
designator U?
Octal Transparent D-Type Latch with 3-State Outputs; Published: 8-Jun-2000; LatestRevisionDate: 04-Mar-2005; LatestRevisionNote: Stylized 3D Model Added.; DatasheetVersion: Nov-1993; PackageVersion: Jun-1999; PackageReference: J020; Publisher: Altium Limited; PackageDescription: DIP; 20 Leads; Row Spacing 7.62 mm; Pitch 2.54 mm; ComponentLink1Description: Manufacturer Link; ComponentLink1URL: http://www.ti.com/; ComponentLink2Description: Datasheet; ComponentLink2URL: http://www-s.ti.com/sc/ds/sn74bct573.pdf
footprint J020 (DIP; 20 Leads; Row Spacing 7.62 mm; Pitch 2.54 mm)
3D model J020 (DIP; 20 Leads; Row Spacing 7.62 mm; Pitch 2.54 mm)
signal-integrity model SN54BCT573J
pins: 1 ~{OE} (in), 2 D1 (in), 3 D2 (in), 4 D3 (in), 5 D4 (in), 6 D5 (in), 7 D6 (in), 8 D7 (in), 9 D8 (in), 10 GND (power), 11 LE (in), 12 Q8 (hiz), 13 Q7 (hiz), 14 Q6 (hiz), 15 Q5 (hiz), 16 Q4 (hiz), 17 Q3 (hiz), 18 Q2 (hiz), 19 Q1 (hiz), 20 VCC (power)

## SN54BCT573W
designator U?
Octal Transparent D-Type Latch with 3-State Outputs; Published: 8-Jun-2000; LatestRevisionDate: 04-Mar-2005; LatestRevisionNote: Stylized 3D Model Added.; DatasheetVersion: Nov-1993; PackageVersion: Jan-1995; PackageReference: W020; Publisher: Altium Limited; PackageDescription: DFP; 20 Leads; Body 13.7 x 7.6 mm (LxW max); Pitch 1.27 mm; ComponentLink1Description: Manufacturer Link; ComponentLink1URL: http://www.ti.com/; ComponentLink2Description: Datasheet; ComponentLink2URL: http://www-s.ti.com/sc/ds/sn74bct573.pdf
footprint W020 (DFP; 20 Leads; Body 13.7 x 7.6 mm (LxW max); Pitch 1.27 mm)
3D model W020 (DFP; 20 Leads; Body 13.7 x 7.6 mm (LxW max); Pitch 1.27 mm)
signal-integrity model SN54BCT573W
pins: 1 ~{OE} (in), 2 D1 (in), 3 D2 (in), 4 D3 (in), 5 D4 (in), 6 D5 (in), 7 D6 (in), 8 D7 (in), 9 D8 (in), 10 GND (power), 11 LE (in), 12 Q8 (hiz), 13 Q7 (hiz), 14 Q6 (hiz), 15 Q5 (hiz), 16 Q4 (hiz), 17 Q3 (hiz), 18 Q2 (hiz), 19 Q1 (hiz), 20 VCC (power)

## SN54BCT29841FK
designator U?
10-Bit Bus-Interface D-Type Latch with 3-State Outputs; Note: Pins No 1,8,15 and 22 are Not Connected; Published: 8-Jun-2000; LatestRevisionDate: 17-Jul-2002; LatestRevisionNote: Re-released for DXP Platform.; DatasheetVersion: Nov-1993; PackageVersion: 1998; PackageReference: FK028; Publisher: Altium Limited; PackageDescription: Leadless Chip Carrier; 28 Terminals; Body 11.4 x 11.4 mm; ComponentLink1Description: Manufacturer Link; ComponentLink1URL: http://www.ti.com/; ComponentLink2Description: Datasheet; ComponentLink2URL: http://www-s.ti.com/sc/ds/sn74bct29841.pdf
footprint FK028 (Leadless Chip Carrier; 28 Terminals; Body 11.4 x 11.4 mm)
signal-integrity model SN54BCT29841FK
pins: 2 ~{OE} (in), 3 D1 (in), 4 D2 (in), 5 D3 (in), 6 D4 (in), 7 D5 (in), 9 D6 (in), 10 D7 (in), 11 D8 (in), 12 D9 (in), 13 D10 (in), 14 GND (power), 16 LE (in), 17 Q10 (hiz), 18 Q9 (hiz), 19 Q8 (hiz), 20 Q7 (hiz), 21 Q6 (hiz), 23 Q5 (hiz), 24 Q4 (hiz), 25 Q3 (hiz), 26 Q2 (hiz), 27 Q1 (hiz), 28 VCC (power)